# Altium footprint library PcbLib.PcbLib: 6 footprints
Each footprint in its own frame and in the unit in brackets; x right, y up, seen from the top. Pads: shape width x height; smd on the part's side, far side on the other; paste and mask are expansions set on the pad; w line width, h text height; cw(c..) or ccw(c..) is an arc to the next point about the centre after c.
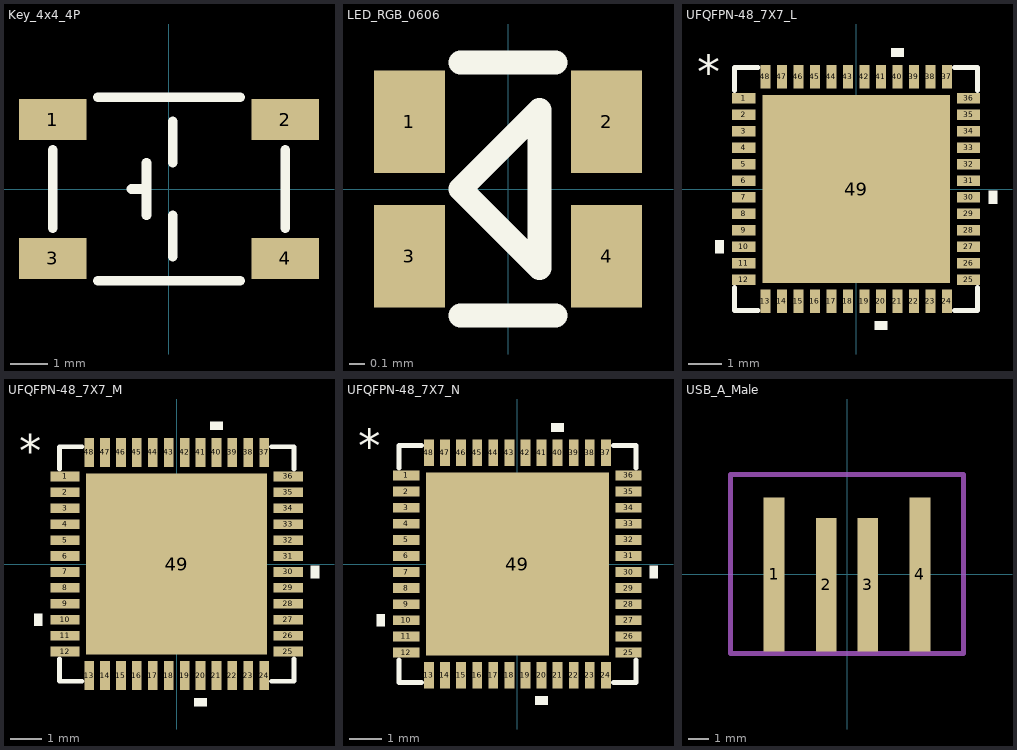
[diagram p0: the footprints below, top view; thin cyan lines are the x and y axes]

## Key_4x4_4P [mm]
pads (4):
  rect 1.8x1.1 smd: 1(-3.1,1.85) 2(3.1,1.85) 3(-3.1,-1.85) 4(3.1,-1.85)
Top Overlay:
  lines w0.254: -3.1,-1.05 -3.1,1.05 ; -1.9,-2.45 1.9,-2.45 ; -1.9,2.45 1.9,2.45 ; -1,0 -0.6,0 ; -0.6,-0.7 -0.6,0.7 ; 0.1,-1.8 0.1,-0.7 ; 0.1,0.7 0.1,1.8 ; 3.1,-1.05 3.1,1.05

## LED_RGB_0606 [mm]
pads (4):
  rect 0.45x0.65 smd mask+0.025: 1(-0.625,0.425) 2(0.625,0.425) 3(-0.625,-0.425) 4(0.625,-0.425)
Top Overlay:
  lines w0.152: -0.3,-0.8 0.3,-0.8 ; -0.3,0.8 0.3,0.8 ; -0.3,0 0.2,-0.5 0.2,0.5 -0.3,0
3D body: height 0.6, standoff 0, extent -0.65,-0.7 0.65,0.7

## UFQFPN-48_7X7_L [mil]
pads (49):
  rect 28x12 smd mask+1: 1(-134,108.27) 2(-134,88.58) 3(-134,68.9) 4(-134,49.21) 5(-134,29.53) 6(-134,9.84) 7(-134,-9.84) 8(-134,-29.53) 9(-134,-49.21) 10(-134,-68.9) 11(-134,-88.58) 12(-134,-108.27) 25(134,-108.27) 26(134,-88.58) 27(134,-68.9) 28(134,-49.21) 29(134,-29.53) 30(134,-9.84) 31(134,9.84) 32(134,29.53) 33(134,49.21) 34(134,68.9) 35(134,88.58) 36(134,108.27)
  rect 12x28 smd mask+1: 13(-108.27,-134) 14(-88.58,-134) 15(-68.9,-134) 16(-49.21,-134) 17(-29.53,-134) 18(-9.84,-134) 19(9.84,-134) 20(29.53,-134) 21(49.21,-134) 22(68.9,-134) 23(88.58,-134) 24(108.27,-134) 37(108.27,134) 38(88.58,134) 39(68.9,134) 40(49.21,134) 41(29.53,134) 42(9.84,134) 43(-9.84,134) 44(-29.53,134) 45(-49.21,134) 46(-68.9,134) 47(-88.58,134) 48(-108.27,134)
  rect 224x224 smd paste-111.5 mask+1: 49(0,0)
Top Overlay:
  region: -158,-61.4 -168,-61.4 -168,-76.4 -158,-76.4
  region: 37.03,-158 22.03,-158 22.03,-168 37.03,-168
  region: 158,-2.34 168,-2.34 168,-17.34 158,-17.34
  region: 56.71,158 41.71,158 41.71,168 56.71,168
  lines w6: -145,-117.27 -145,-145 -117.27,-145 ; -145,117.27 -145,145 -117.27,145 ; 117.27,-145 145,-145 145,-117.27 ; 117.27,145 145,145 145,117.27
  text "*" at -190,120 h40
Top Paste:
  region: -59.94,108.06 -108.06,108.06 -108.06,59.94 -59.94,59.94
  region: -59.94,52.06 -108.06,52.06 -108.06,3.94 -59.94,3.94
  region: -59.94,-3.94 -108.06,-3.94 -108.06,-52.06 -59.94,-52.06
  region: -59.94,-59.94 -108.06,-59.94 -108.06,-108.06 -59.94,-108.06
  region: -3.94,108.06 -52.06,108.06 -52.06,59.94 -3.94,59.94
  region: -3.94,52.06 -52.06,52.06 -52.06,3.94 -3.94,3.94
  region: -3.94,-3.94 -52.06,-3.94 -52.06,-52.06 -3.94,-52.06
  region: -3.94,-59.94 -52.06,-59.94 -52.06,-108.06 -3.94,-108.06
  region: 52.06,108.06 3.94,108.06 3.94,59.94 52.06,59.94
  region: 52.06,52.06 3.94,52.06 3.94,3.94 52.06,3.94
  region: 52.06,-3.94 3.94,-3.94 3.94,-52.06 52.06,-52.06
  region: 52.06,-59.94 3.94,-59.94 3.94,-108.06 52.06,-108.06
  region: 108.06,108.06 59.94,108.06 59.94,59.94 108.06,59.94
  region: 108.06,52.06 59.94,52.06 59.94,3.94 108.06,3.94
  region: 108.06,-3.94 59.94,-3.94 59.94,-52.06 108.06,-52.06
  region: 108.06,-59.94 59.94,-59.94 59.94,-108.06 108.06,-108.06
3D body "UFQFPN-48_7X7X01.step": height 24.09, standoff 0, extent -140,-140 140,140

## UFQFPN-48_7X7_M [mil]
pads (49):
  rect 36x12 smd mask+1: 1(-138,108.27) 2(-138,88.58) 3(-138,68.9) 4(-138,49.21) 5(-138,29.53) 6(-138,9.84) 7(-138,-9.84) 8(-138,-29.53) 9(-138,-49.21) 10(-138,-68.9) 11(-138,-88.58) 12(-138,-108.27) 25(138,-108.27) 26(138,-88.58) 27(138,-68.9) 28(138,-49.21) 29(138,-29.53) 30(138,-9.84) 31(138,9.84) 32(138,29.53) 33(138,49.21) 34(138,68.9) 35(138,88.58) 36(138,108.27)
  rect 12x36 smd mask+1: 13(-108.27,-138) 14(-88.58,-138) 15(-68.9,-138) 16(-49.21,-138) 17(-29.53,-138) 18(-9.84,-138) 19(9.84,-138) 20(29.53,-138) 21(49.21,-138) 22(68.9,-138) 23(88.58,-138) 24(108.27,-138) 37(108.27,138) 38(88.58,138) 39(68.9,138) 40(49.21,138) 41(29.53,138) 42(9.84,138) 43(-9.84,138) 44(-29.53,138) 45(-49.21,138) 46(-68.9,138) 47(-88.58,138) 48(-108.27,138)
  rect 224x224 smd paste-111.5 mask+1: 49(0,0)
Top Overlay:
  region: -166,-61.4 -176,-61.4 -176,-76.4 -166,-76.4
  region: 37.03,-166 22.03,-166 22.03,-176 37.03,-176
  region: 166,-2.34 176,-2.34 176,-17.34 166,-17.34
  region: 56.71,166 41.71,166 41.71,176 56.71,176
  lines w6: -145,-117.27 -145,-145 -117.27,-145 ; -145,117.27 -145,145 -117.27,145 ; 117.27,-145 145,-145 145,-117.27 ; 117.27,145 145,145 145,117.27
  text "*" at -195,120 h40
Top Paste:
  region: -59.94,108.06 -108.06,108.06 -108.06,59.94 -59.94,59.94
  region: -59.94,52.06 -108.06,52.06 -108.06,3.94 -59.94,3.94
  region: -59.94,-3.94 -108.06,-3.94 -108.06,-52.06 -59.94,-52.06
  region: -59.94,-59.94 -108.06,-59.94 -108.06,-108.06 -59.94,-108.06
  region: -3.94,108.06 -52.06,108.06 -52.06,59.94 -3.94,59.94
  region: -3.94,52.06 -52.06,52.06 -52.06,3.94 -3.94,3.94
  region: -3.94,-3.94 -52.06,-3.94 -52.06,-52.06 -3.94,-52.06
  region: -3.94,-59.94 -52.06,-59.94 -52.06,-108.06 -3.94,-108.06
  region: 52.06,108.06 3.94,108.06 3.94,59.94 52.06,59.94
  region: 52.06,52.06 3.94,52.06 3.94,3.94 52.06,3.94
  region: 52.06,-3.94 3.94,-3.94 3.94,-52.06 52.06,-52.06
  region: 52.06,-59.94 3.94,-59.94 3.94,-108.06 52.06,-108.06
  region: 108.06,108.06 59.94,108.06 59.94,59.94 108.06,59.94
  region: 108.06,52.06 59.94,52.06 59.94,3.94 108.06,3.94
  region: 108.06,-3.94 59.94,-3.94 59.94,-52.06 108.06,-52.06
  region: 108.06,-59.94 59.94,-59.94 59.94,-108.06 108.06,-108.06
3D body "UFQFPN-48_7X7X00.step": height 24.09, standoff 0, extent -140,-139.99 140,140.01

## UFQFPN-48_7X7_N [mil]
pads (49):
  rect 32x12 smd mask+1: 1(-136,108.27) 2(-136,88.58) 3(-136,68.9) 4(-136,49.21) 5(-136,29.53) 6(-136,9.84) 7(-136,-9.84) 8(-136,-29.53) 9(-136,-49.21) 10(-136,-68.9) 11(-136,-88.58) 12(-136,-108.27) 25(136,-108.27) 26(136,-88.58) 27(136,-68.9) 28(136,-49.21) 29(136,-29.53) 30(136,-9.84) 31(136,9.84) 32(136,29.53) 33(136,49.21) 34(136,68.9) 35(136,88.58) 36(136,108.27)
  rect 12x32 smd mask+1: 13(-108.27,-136) 14(-88.58,-136) 15(-68.9,-136) 16(-49.21,-136) 17(-29.53,-136) 18(-9.84,-136) 19(9.84,-136) 20(29.53,-136) 21(49.21,-136) 22(68.9,-136) 23(88.58,-136) 24(108.27,-136) 37(108.27,136) 38(88.58,136) 39(68.9,136) 40(49.21,136) 41(29.53,136) 42(9.84,136) 43(-9.84,136) 44(-29.53,136) 45(-49.21,136) 46(-68.9,136) 47(-88.58,136) 48(-108.27,136)
  rect 224x224 smd paste-111.5 mask+1: 49(0,0)
Top Overlay:
  region: 56.71,162 41.71,162 41.71,172 56.71,172
  region: 162,-2.34 172,-2.34 172,-17.34 162,-17.34
  region: 37.03,-162 22.03,-162 22.03,-172 37.03,-172
  region: -162,-61.4 -172,-61.4 -172,-76.4 -162,-76.4
  lines w6: -145,-117.27 -145,-145 -117.27,-145 ; -145,117.27 -145,145 -117.27,145 ; 117.27,-145 145,-145 145,-117.27 ; 117.27,145 145,145 145,117.27
  text "*" at -195,125 h40
Top Paste:
  region: 108.06,-59.94 59.94,-59.94 59.94,-108.06 108.06,-108.06
  region: 108.06,-3.94 59.94,-3.94 59.94,-52.06 108.06,-52.06
  region: 108.06,52.06 59.94,52.06 59.94,3.94 108.06,3.94
  region: 108.06,108.06 59.94,108.06 59.94,59.94 108.06,59.94
  region: 52.06,-59.94 3.94,-59.94 3.94,-108.06 52.06,-108.06
  region: 52.06,-3.94 3.94,-3.94 3.94,-52.06 52.06,-52.06
  region: 52.06,52.06 3.94,52.06 3.94,3.94 52.06,3.94
  region: 52.06,108.06 3.94,108.06 3.94,59.94 52.06,59.94
  region: -3.94,-59.94 -52.06,-59.94 -52.06,-108.06 -3.94,-108.06
  region: -3.94,-3.94 -52.06,-3.94 -52.06,-52.06 -3.94,-52.06
  region: -3.94,52.06 -52.06,52.06 -52.06,3.94 -3.94,3.94
  region: -3.94,108.06 -52.06,108.06 -52.06,59.94 -3.94,59.94
  region: -59.94,-59.94 -108.06,-59.94 -108.06,-108.06 -59.94,-108.06
  region: -59.94,-3.94 -108.06,-3.94 -108.06,-52.06 -59.94,-52.06
  region: -59.94,52.06 -108.06,52.06 -108.06,3.94 -59.94,3.94
  region: -59.94,108.06 -108.06,108.06 -108.06,59.94 -59.94,59.94
3D body "UFQFPN-48_7X7X0P.step": height 24.09, standoff 0, extent -139.99,-139.99 140.01,140.01

## USB_A_Male [mm]
pads (4):
  rect 1x7.41 smd paste-100 mask+0: 1(-3.5,0) 4(3.5,0)
  rect 1x6.41 smd paste-100 mask+0: 2(-1,-0.5) 3(1,-0.5)
Mechanical 15:
  lines w0.254: -5.6,-3.8 -5.6,4.8 5.6,4.8 5.6,-3.8 -5.6,-3.8
  text "t2.3" at -5.454,5.394 h0.81